# Altium schematic symbol library Skjema for connector.SchLib: 1 symbol
Pins are listed as number, name and electrical type; pins without a type are passive.

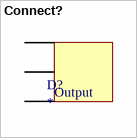
[diagram p0: symbol Connect?]

## Connect?
designator D?
footprint PCBComponent_1
footprint JST_B3PS-VH(LF)(SN)
pins: 22 (power), 23 (power), 24 (power)
text: Output